# Altium footprint library Flow_Pump显示板.PcbLib: 70 footprints (part 3 of 5)
Each footprint in its own frame and in the unit in brackets; x right, y up, seen from the top. Pads: shape width x height; smd on the part's side, far side on the other; paste and mask are expansions set on the pad; w line width, h text height; cw(c..) or ccw(c..) is an arc to the next point about the centre after c.
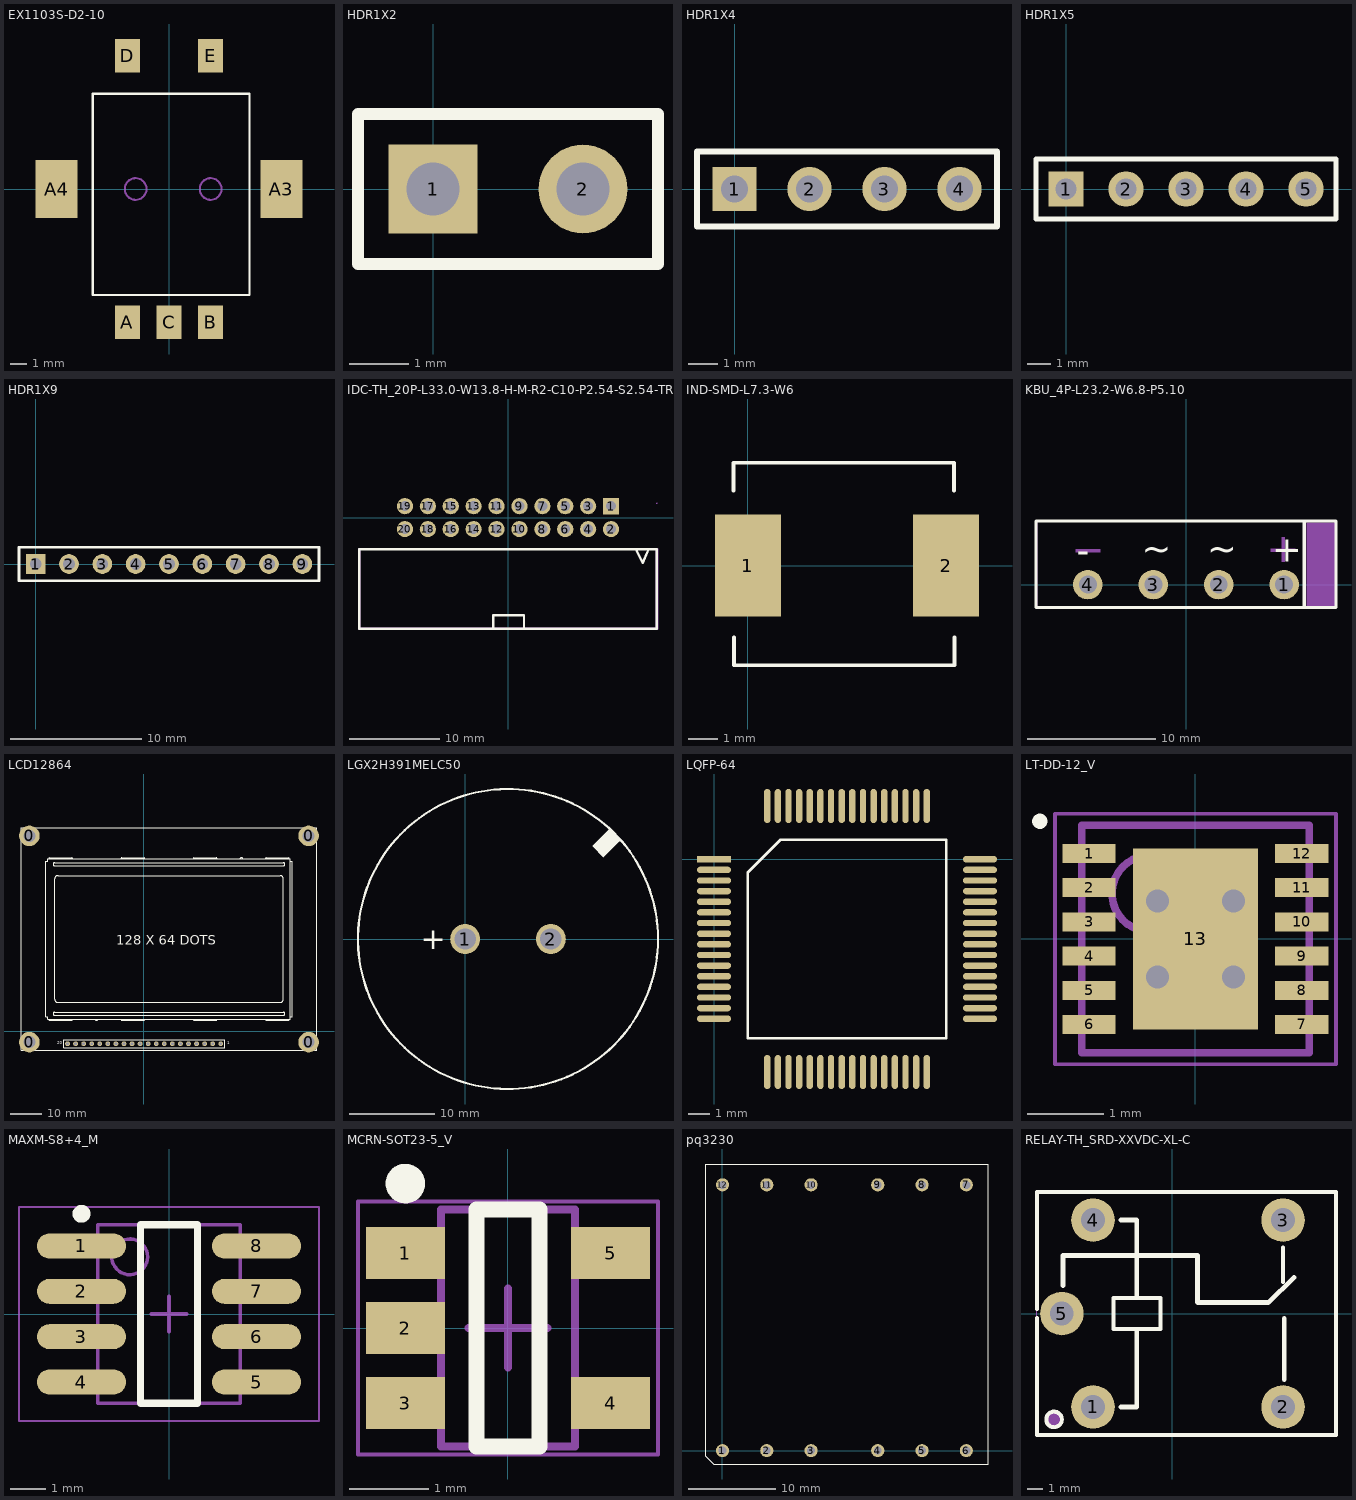
[diagram p2: the footprints below, top view; thin cyan lines are the x and y axes]

## EX1103S-D2-10 [mm]
height 0.75
pads (7):
  rect 1.5x2 smd: A(-2.5,-8) B(2.5,-8) C(0,-8) D(-2.5,8) E(2.5,8)
  rect 2.5x3.5 smd: A3(6.75,0) A4(-6.75,0)
Top Overlay:
  lines w0.127: -4.572,-6.35 -4.572,5.715 4.826,5.715 4.826,-6.35 -4.572,-6.35
Mechanical 1:
  circle w0.127: c-2,0 r0.65
  circle w0.127: c2.5,0 r0.65

## HDR1X2 [mm] "Connector; Header; 2 Position"
height 0.75
pads (2):
  rect 1.5x1.5 hole 0.9: 1(0,0)
  round 1.5 hole 0.9: 2(2.54,0)
Top Overlay:
  lines w0.2: -1.27,-1.27 -1.27,1.27 3.81,1.27 3.81,-1.27 -1.27,-1.27

## HDR1X4 [mm] "Connector; Header; 4 Position"
height 0.75
pads (4):
  rect 1.5x1.5 hole 0.9: 1(0,0)
  round 1.5 hole 0.9: 2(2.54,0) 3(5.08,0) 4(7.62,0)
Top Overlay:
  lines w0.2: -1.27,-1.27 -1.27,1.27 8.89,1.27 8.89,-1.27 -1.27,-1.27

## HDR1X5 [mm] "Connector; Header; 5 Position"
height 0.75
pads (5):
  rect 1.5x1.5 hole 0.9: 1(0,0)
  round 1.5 hole 0.9: 2(2.54,0) 3(5.08,0) 4(7.62,0) 5(10.16,0)
Top Overlay:
  lines w0.2: -1.27,-1.27 11.43,-1.27 11.43,1.27 -1.27,1.27 -1.27,-1.27

## HDR1X9 [mm] "Connector; Header; 9 Position"
height 0.75
pads (9):
  rect 1.5x1.5 hole 0.9: 1(0,0)
  round 1.5 hole 0.9: 2(2.54,0) 3(5.08,0) 4(7.62,0) 5(10.16,0) 6(12.7,0) 7(15.24,0) 8(17.78,0) 9(20.32,0)
Top Overlay:
  lines w0.2: -1.27,-1.27 21.59,-1.27 21.59,1.27 -1.27,1.27 -1.27,-1.27

## IDC-TH_20P-L33.0-W13.8-H-M-R2-C10-P2.54-S2.54-TR [mm]
pads (20):
  rect 1.8x1.8 hole 1.1: 1(11.43,1.27)
  round 1.8 hole 1.1: 2(11.43,-1.27) 3(8.89,1.27) 4(8.89,-1.27) 5(6.35,1.27) 6(6.35,-1.27) 7(3.81,1.27) 8(3.81,-1.27) 9(1.27,1.27) 10(1.27,-1.27) 11(-1.27,1.27) 12(-1.27,-1.27) 13(-3.81,1.27) 14(-3.81,-1.27) 15(-6.35,1.27) 16(-6.35,-1.27) 17(-8.89,1.27) 18(-8.89,-1.27) 19(-11.43,1.27) 20(-11.43,-1.27)
Top Overlay:
  lines w0.254: -16.51,-3.525 -16.51,-12.325 16.51,-12.325 16.51,-3.52 -16.51,-3.52 ; -1.639,-12.325 -1.639,-10.84 1.78,-10.84 1.78,-12.325 ; 14.178,-3.52 14.94,-5.01 15.6,-3.52
Mechanical 6:
  region: 16.383,-12.325 16.383,-3.52 16.383,-3.467 16.457,-3.393 16.563,-3.393 16.637,-3.467 16.637,-3.52 16.637,-12.325 16.637,-12.378 16.563,-12.452 16.457,-12.452 16.383,-12.378
  region: -16.51,-12.198 16.51,-12.198 16.563,-12.198 16.637,-12.272 16.637,-12.378 16.563,-12.452 16.51,-12.452 -16.51,-12.452 -16.563,-12.452 -16.637,-12.378 -16.637,-12.272 -16.563,-12.198
  region: -16.383,-3.525 -16.383,-12.325 -16.383,-12.378 -16.457,-12.452 -16.563,-12.452 -16.637,-12.378 -16.637,-12.325 -16.637,-3.525 -16.637,-3.472 -16.563,-3.398 -16.457,-3.398 -16.383,-3.472
Mechanical 15:
  region: 16.57,1.59 16.569,1.614 16.534,1.648 16.486,1.648 16.451,1.614 16.45,1.59 16.451,1.566 16.486,1.532 16.534,1.532 16.569,1.566
  region: 11.11,-0.95 11.75,-0.95 11.75,-1.59 11.11,-1.59
  region: 8.57,1.59 9.21,1.59 9.21,0.95 8.57,0.95
  region: 8.57,-0.95 9.21,-0.95 9.21,-1.59 8.57,-1.59
  region: 6.03,1.59 6.67,1.59 6.67,0.95 6.03,0.95
  region: 6.03,-0.95 6.67,-0.95 6.67,-1.59 6.03,-1.59
  region: 3.49,1.59 4.13,1.59 4.13,0.95 3.49,0.95
  region: 3.49,-0.95 4.13,-0.95 4.13,-1.59 3.49,-1.59
  region: 0.95,1.59 1.59,1.59 1.59,0.95 0.95,0.95
  region: 0.95,-0.95 1.59,-0.95 1.59,-1.59 0.95,-1.59
  region: -1.59,1.59 -0.95,1.59 -0.95,0.95 -1.59,0.95
  region: -1.59,-0.95 -0.95,-0.95 -0.95,-1.59 -1.59,-1.59
  region: -4.13,1.59 -3.49,1.59 -3.49,0.95 -4.13,0.95
  region: -4.13,-0.95 -3.49,-0.95 -3.49,-1.59 -4.13,-1.59
  region: -6.67,1.59 -6.03,1.59 -6.03,0.95 -6.67,0.95
  region: -6.67,-0.95 -6.03,-0.95 -6.03,-1.59 -6.67,-1.59
  region: -9.21,1.59 -8.57,1.59 -8.57,0.95 -9.21,0.95
  region: -9.21,-0.95 -8.57,-0.95 -8.57,-1.59 -9.21,-1.59
  region: -11.75,1.59 -11.11,1.59 -11.11,0.95 -11.75,0.95
  region: -11.75,-0.95 -11.11,-0.95 -11.11,-1.59 -11.75,-1.59
  region: 11.11,1.59 11.75,1.59 11.75,0.95 11.11,0.95
  lines w0.051: -16.51,-12.323 16.51,-12.323 16.51,-3.523 -16.51,-3.523 -16.51,-12.323

## IND-SMD-L7.3-W6 [mm]
height 0.75
pads (2):
  rect 2.224x3.42 smd: 1(0,0) 2(6.656,0)
Top Overlay:
  lines w0.127: -0.483,2.515 -0.483,3.454 6.917,3.454 6.917,2.515 ; -0.466,-2.413 -0.466,-3.353 6.934,-3.353 6.934,-2.413

## KBU_4P-L23.2-W6.8-P5.10 [mm]
height 0.75
pads (4):
  round 2.3 hole 1.4: 1(7.65,0) 2(2.55,0) 3(-2.55,0) 4(-7.65,0)
Top Overlay:
  lines w0.254: 9.206,-1.778 9.206,4.953 ; -11.684,-1.778 -11.684,4.953 11.684,4.953 11.684,-1.778 -11.684,-1.778
  text "-" at -8.509,1.651 h2.03
  text "~" at -3.43,1.831 h2.03
  text "~" at 1.65,1.831 h2.03
  text "+" at 6.73,1.786 h2.03
Mechanical 6:
  region: 9.398,4.826 11.557,4.826 11.557,-1.651 9.398,-1.651
  region: -8.597,2.758 -6.692,2.758 -6.692,2.504 -8.597,2.504
  region: 7.452,1.764 7.452,3.669 7.706,3.669 7.706,1.764
  region: 6.604,2.794 8.509,2.794 8.509,2.54 6.604,2.54
Mechanical 15:
  region: -7.025,0 -7.025,0.124 -7.12,0.354 -7.296,0.53 -7.526,0.625 -7.774,0.625 -8.004,0.53 -8.18,0.354 -8.275,0.124 -8.275,0 -8.275,-0.124 -8.18,-0.354 -8.004,-0.53 -7.774,-0.625 -7.526,-0.625 -7.296,-0.53 -7.12,-0.354 -7.025,-0.124 -7.025,0
  region: -1.925,0 -1.925,0.124 -2.02,0.354 -2.196,0.53 -2.426,0.625 -2.674,0.625 -2.904,0.53 -3.08,0.354 -3.175,0.124 -3.175,0 -3.175,-0.124 -3.08,-0.354 -2.904,-0.53 -2.674,-0.625 -2.426,-0.625 -2.196,-0.53 -2.02,-0.354 -1.925,-0.124 -1.925,0
  region: 3.175,0 3.175,0.124 3.08,0.354 2.904,0.53 2.674,0.625 2.426,0.625 2.196,0.53 2.02,0.354 1.925,0.124 1.925,0 1.925,-0.124 2.02,-0.354 2.196,-0.53 2.426,-0.625 2.674,-0.625 2.904,-0.53 3.08,-0.354 3.175,-0.124 3.175,0
  region: 8.275,0 8.275,0.124 8.18,0.354 8.004,0.53 7.774,0.625 7.526,0.625 7.296,0.53 7.12,0.354 7.025,0.124 7.025,0 7.025,-0.124 7.12,-0.354 7.296,-0.53 7.526,-0.625 7.774,-0.625 8.004,-0.53 8.18,-0.354 8.275,-0.124 8.275,0
  region: 11.66,4.95 11.66,4.975 11.625,5.01 11.575,5.01 11.54,4.975 11.54,4.95 11.54,4.925 11.575,4.89 11.625,4.89 11.66,4.925 11.66,4.95
  lines w0.051: -11.6,-1.8 -11.6,4.95 11.6,4.95 11.6,-1.8 -11.6,-1.8

## LCD12864 [mm] "Connector; Header; 5 Position"
height 0.75
pads (24):
  round 6.5 hole 3.8: 0(-35.982,-3.505) 0(-35.982,61.495) 0(52.018,-3.505) 0(52.018,61.495)
  round 1.5 hole 0.9: 1(24.318,-4.006) 2(21.778,-4.006) 3(19.238,-4.006) 4(16.698,-4.006) 5(14.158,-4.006) 6(11.618,-4.006) 7(9.078,-4.006) 8(6.538,-4.006) 9(3.998,-4.006) 10(1.458,-4.006) 11(-1.082,-4.006) 12(-3.622,-4.006) 13(-6.162,-4.006) 14(-8.702,-4.006) 15(-11.242,-4.006) 16(-13.782,-4.006) 17(-16.322,-4.006) 18(-18.862,-4.006) 19(-21.402,-4.006) 20(-23.942,-4.006)
Top Overlay:
  circle w0.254: c-27.982,47.995 r0.003
  circle w0.254: c-38.482,63.995 r0.003
  circle w0.254: c-38.482,63.995 r0.003
  circle w0.254: c-30.782,53.495 r0.003
  circle w0.254: c-38.482,63.995 r0.003
  circle w0.254: c-30.182,54.345 r0.003
  circle w0.254: c-38.482,63.995 r0.003
  circle w0.254: c-38.482,63.995 r0.003
  circle w0.254: c-38.482,63.995 r0.003
  circle w0.254: c54.518,63.995 r0.003
  circle w0.254: c-38.482,63.995 r0.003
  circle w0.254: c46.818,53.495 r0.003
  circle w0.254: c-30.782,53.495 r0.003
  circle w0.254: c44.018,47.995 r0.003
  circle w0.254: c-27.982,47.995 r0.003
  circle w0.254: c-38.482,-6.005 r0.003
  circle w0.254: c-38.482,63.995 r0.003
  circle w0.254: c-30.182,3.645 r0.003
  circle w0.254: c-30.182,54.345 r0.003
  circle w0.254: c-26.982,8.995 r0.003
  circle w0.254: c-26.982,48.995 r0.003
  circle w0.254: c54.518,-6.005 r0.003
  circle w0.254: c-38.482,-6.005 r0.003
  lines w0.2: -25.212,-5.276 -25.212,-2.736 25.588,-2.736 25.588,-5.276 -25.212,-5.276
  lines w0.254: -29.869,3.645 ccw(c-29.182,3.945) -29.632,3.345 -22.582,3.345 ccw(c-23.032,3.945) -22.344,3.645 ; -29.869,54.345 cw(c-29.182,54.045) -29.632,54.645 -22.582,54.645 cw(c-23.032,54.045) -22.344,54.345 ; -15.255,3.645 ccw(c-14.794,3.945) -14.333,3.645 ; -7.124,3.645 ccw(c-6.437,3.945) -6.887,3.345 0.163,3.345 ccw(c-0.287,3.945) 0.401,3.645 ; -7.124,54.345 cw(c-6.437,54.045) -6.887,54.645 0.163,54.645 cw(c-0.287,54.045) 0.401,54.345 ; 15.636,3.645 ccw(c16.323,3.945) 15.873,3.345 22.923,3.345 ccw(c22.473,3.945) 23.161,3.645 ; 15.636,54.345 cw(c16.323,54.045) 15.873,54.645 22.923,54.645 cw(c22.473,54.045) 23.161,54.345 ; 30.37,54.345 cw(c30.831,54.045) 31.292,54.345 ; 38.381,3.645 ccw(c39.068,3.945) 38.618,3.345 45.668,3.345 ccw(c45.218,3.945) 45.906,3.645 ; 38.381,54.345 cw(c39.068,54.045) 38.618,54.645 45.668,54.645 cw(c45.218,54.045) 45.906,54.345 ; -30.782,4.495 -30.182,4.495 ; -30.782,4.495 -30.782,53.495 ; -30.782,4.495 -30.182,4.495 ; -30.782,4.495 -30.782,53.495 ; -30.782,53.495 -30.182,53.495 ; -30.782,53.495 -30.182,53.495 ; -30.182,3.645 -30.182,4.495 ; -30.182,3.645 46.018,3.645 -30.182,3.645 ; -30.182,3.645 -30.182,4.495 ; -30.182,53.495 -30.182,54.345 ; -30.182,53.495 -30.182,53.88 -30.182,53.495 ; -30.182,53.495 -30.182,54.345 ; -30.182,54.345 46.018,54.345 -30.182,54.345 ; -29.982,54.345 46.218,54.345 ; -29.982,54.345 46.218,54.345 ; -29.982,54.345 46.218,54.345 ; -27.982,4.945 cw(c-27.982,5.445) -27.982,5.945 ; -27.982,4.945 cw(c-27.982,5.445) -27.982,5.945 ; -27.982,4.945 44.018,4.945 ; -27.982,5.945 44.018,5.945 ; -27.982,9.995 ccw(c-26.982,9.995) -26.982,8.995 ; -27.982,9.995 ccw(c-26.982,9.995) -26.982,8.995 ; -27.982,9.995 -27.982,47.995 ; -27.982,9.995 -27.982,47.995 ; -27.982,47.995 cw(c-26.982,47.995) -26.982,48.995 ; -27.982,47.995 cw(c-26.982,47.995) -26.982,48.995 ; -27.982,52.045 cw(c-27.982,52.545) -27.982,53.045 ; -27.982,52.045 cw(c-27.982,52.545) -27.982,53.045 ; -27.982,52.045 44.018,52.045 ; -27.982,52.045 44.018,52.045 ; -27.982,53.045 44.018,53.045 ; -27.982,53.045 44.018,53.045 ; -26.982,8.995 43.018,8.995 ; -26.982,8.995 43.018,8.995 ; -26.982,48.995 43.018,48.995 ; -26.982,48.995 43.018,48.995 ; 43.018,8.995 ccw(c43.018,9.995) 44.018,9.995 ; 43.018,8.995 ccw(c43.018,9.995) 44.018,9.995 ; 43.018,48.995 cw(c43.018,47.995) 44.018,47.995 ; 43.018,48.995 cw(c43.018,47.995) 44.018,47.995 ; 44.018,4.945 ccw(c44.018,5.445) 44.018,5.945 ; 44.018,4.945 ccw(c44.018,5.445) 44.018,5.945 ; 44.018,9.995 44.018,47.995 ; 44.018,9.995 44.018,47.995 ; 44.018,52.045 ccw(c44.018,52.545) 44.018,53.045 ; 44.018,52.045 ccw(c44.018,52.545) 44.018,53.045 ; 46.218,3.645 46.218,4.495 ; 46.218,3.645 -29.982,3.645 46.218,3.645 ; 46.218,3.645 46.218,4.495 ; 46.218,4.495 46.818,4.495 ; 46.218,4.495 46.218,53.495 ; 46.218,4.495 46.818,4.495 ; 46.218,53.495 46.218,54.345 ; 46.218,53.495 46.218,54.345 ; 46.218,53.495 46.218,53.88 46.218,53.495 ; 46.218,53.495 46.818,53.495 ; 46.218,53.495 46.218,54.345 ; 46.218,53.495 46.818,53.495 ; 46.818,4.495 46.818,53.495 ; 46.818,4.495 46.818,53.495 ; -38.482,-6.005 -38.482,63.995 54.518,63.995 54.518,-6.005 -38.482,-6.005
  text "20" at -27.214,-4.496 h1.52
  text "1" at 26.322,-4.46 h1.52
  text "128 X 64 DOTS" at -8.675,27.127 h3

## LGX2H391MELC50 [mm]
height 0.75
pads (2):
  round 3.5 hole 2.5: 1(0,0) 2(10,0)
Top Overlay:
  circle w0.254: c5,0 r17.5
  region: 16.861,12.867 14.859,10.865 14.859,10.795 16.129,9.525 17.981,11.377 18.297,11.377
  text "+" at -5.207,-1.185 h2.54

## LQFP-64 [mm]
height 0.75
pads (64):
  rect 1.6x0.3 smd: 1(0,0)
  oval 1.6x0.3 smd: 2(0,-0.5) 3(0,-1) 4(0,-1.5) 5(0,-2) 6(0,-2.5) 7(0,-3) 8(0,-3.5) 9(0,-4) 10(0,-4.5) 11(0,-5) 12(0,-5.5) 13(0,-6) 14(0,-6.5) 15(0,-7) 16(0,-7.5) 33(12.5,-7.5) 34(12.5,-7) 35(12.5,-6.5) 36(12.5,-6) 37(12.5,-5.5) 38(12.5,-5) 39(12.5,-4.5) 40(12.5,-4) 41(12.5,-3.5) 42(12.5,-3) 43(12.5,-2.5) 44(12.5,-2) 45(12.5,-1.5) 46(12.5,-1) 47(12.5,-0.5) 48(12.5,0)
  oval 0.3x1.6 smd: 17(2.5,-10) 18(3,-10) 19(3.5,-10) 20(4,-10) 21(4.5,-10) 22(5,-10) 23(5.5,-10) 24(6,-10) 25(6.5,-10) 26(7,-10) 27(7.5,-10) 28(8,-10) 29(8.5,-10) 30(9,-10) 31(9.5,-10) 32(10,-10) 49(10,2.5) 50(9.5,2.5) 51(9,2.5) 52(8.5,2.5) 53(8,2.5) 54(7.5,2.5) 55(7,2.5) 56(6.5,2.5) 57(6,2.5) 58(5.5,2.5) 59(5,2.5) 60(4.5,2.5) 61(4,2.5) 62(3.5,2.5) 63(3,2.5) 64(2.5,2.5)
Top Overlay:
  lines w0.127: 1.585,-8.415 10.915,-8.415 10.915,0.915 3.12,0.915 1.585,-0.62 1.585,-8.415

## LT-DD-12_V [mm] "SON, 12-Leads, Body 3x3mm, Pitch 0.45mm, Thermal Pad 2.38x1.65mm"
height 0.8
pads (13):
  rect 0.7x0.25 smd: 1(-1.4,1.125) 2(-1.4,0.675) 3(-1.4,0.225) 4(-1.4,-0.225) 5(-1.4,-0.675) 6(-1.4,-1.125) 7(1.4,-1.125) 8(1.4,-0.675) 9(1.4,-0.225) 10(1.4,0.225) 11(1.4,0.675) 12(1.4,1.125)
  rect 1.65x2.38 smd: 13(0,0)
via -0.5,0.5 diameter 0.61 hole 0.305
via 0.5,0.5 diameter 0.61 hole 0.305
via -0.5,-0.5 diameter 0.61 hole 0.305
via 0.5,-0.5 diameter 0.61 hole 0.305
Top Overlay:
  circle w0.1: c-2.05,1.55 r0.05
Mechanical 13:
  circle w0.1: c-0.6,0.6 r0.5
  lines w0.1: -1.5,-1.5 -1.5,1.5 1.5,1.5 1.5,-1.5 -1.5,-1.5
Mechanical 15:
  lines w0.05: -1.85,-1.65 -1.85,1.65 1.85,1.65 1.85,-1.65 -1.85,-1.65
  lines w0.1: -0.5,0 0.5,0 ; 0,-0.5 0,0.5
3D body: height 0.8, standoff 0, extent -1.5,-1.5 1.5,1.5

## MAXM-S8+4_M [mm] "SOIC, 8-Leads, Body 4.9x3.9mm, Pitch 1.27mm, IPC Low Density"
height 1.75
pads (8):
  oval 2.5x0.7 smd: 1(-2.45,1.905) 2(-2.45,0.635) 3(-2.45,-0.635) 4(-2.45,-1.905) 5(2.45,-1.905) 6(2.45,-0.635) 7(2.45,0.635) 8(2.45,1.905)
Top Overlay:
  circle w0.25: c-2.45,2.805 r0.125
  lines w0.2: -0.8,-2.5 0.8,-2.5 0.8,2.5 -0.8,2.5 -0.8,-2.5
Mechanical 13:
  circle w0.1: c-1.1,1.6 r0.5
  lines w0.1: -2,-2.5 2,-2.5 2,2.5 -2,2.5 -2,-2.5
Mechanical 15:
  lines w0.05: -4.2,-3 4.2,-3 4.2,3 -4.2,3 -4.2,-3
  lines w0.1: -0.5,0 0.5,0 ; 0,-0.5 0,0.5
3D body: height 1.75, standoff 0.1, extent -2,-2.5 2,2.5

## MCRN-SOT23-5_V [mm] "SOT-23, 5-Leads, Body 3x1.7mm, Pitch 0.95mm"
height 1.45
pads (5):
  rect 1x0.66 smd: 1(-1.3,0.95) 2(-1.3,0) 3(-1.3,-0.95) 4(1.3,-0.95) 5(1.3,0.95)
Top Overlay:
  circle w0.25: c-1.3,1.83 r0.125
  lines w0.2: -0.4,-1.5 -0.4,1.5 0.4,1.5 0.4,-1.5 -0.4,-1.5
Mechanical 13:
  lines w0.1: -0.85,-1.5 0.85,-1.5 0.85,1.5 -0.85,1.5 -0.85,-1.5
Mechanical 15:
  lines w0.05: -1.9,-1.6 1.9,-1.6 1.9,1.6 -1.9,1.6 -1.9,-1.6
  lines w0.1: -0.5,0 0.5,0 ; 0,-0.5 0,0.5
3D body "SOT95P280X145-5L.step": height 1.45, standoff 0, extent -1.5,-1.5 1.5,1.5

## pq3230 [mm]
height 0.75
pads (12):
  round 1.5 hole 0.9: 1(0,0) 2(5.05,0) 3(10.1,0) 4(17.7,0) 5(22.75,0) 6(27.8,0) 7(27.8,30.3) 8(22.75,30.3) 9(17.7,30.3) 10(10.1,30.3) 11(5.05,30.3) 12(0,30.3)
Top Overlay:
  lines w0.127: -1.905,-0.635 -1.016,-1.524 30.295,-1.524 30.295,32.676 -1.905,32.676 -1.905,-0.635

## RELAY-TH_SRD-XXVDC-XL-C [mil]
height 29.53
pads (5):
  round 110 hole 60: 1(-200.79,-236.22) 2(279.54,-236.2) 3(279.53,236.2) 4(-200.79,236.22) 5(-279.53,0)
Top Overlay:
  circle w10: c-299.21,-267.72 r19.69
  lines w10: -342.49,-11.6 -342.49,-307.09 413.43,-307.09 ; -342.49,11.6 -342.49,307.09 413.42,307.09 413.43,-307.09 ; 279.5,79.5 279.5,167.2 ; -148.62,-39.37 -30.51,-39.37 -30.51,39.37 -148.62,39.37 -148.62,-39.37
  lines w11.81: -276.84,70.87 -276.84,146.74 63.16,146.74 63.16,28.63 64.11,27.68 222.22,27.68 242.22,27.68 ; -130.31,-236.22 -90.24,-236.22 -90.24,-41.39 ; -130.31,236.22 -90.24,236.22 -90.24,41.37 ; 242.13,27.6 307.11,90.9 ; 282.22,-167.6 282.22,-12.3
Mechanical 6:
  circle w19.68: c-299.21,-267.72 r9.84
Mechanical 15:
  region: -340.16,-307.07 -340.16,-306.09 -341.54,-304.71 -343.5,-304.71 -344.88,-306.09 -344.88,-307.07 -344.88,-308.05 -343.5,-309.43 -341.54,-309.43 -340.16,-308.05 -340.16,-307.07
  region: -188.97,236.22 -189.02,238.54 -190.86,242.8 -194.17,246.05 -198.47,247.8 -203.11,247.8 -207.4,246.05 -210.72,242.8 -212.56,238.54 -212.6,236.22 -212.56,233.9 -210.72,229.64 -207.4,226.39 -203.11,224.63 -198.47,224.63 -194.17,226.39 -190.86,229.64 -189.02,233.9 -188.97,236.22
  region: -188.97,-236.22 -189.02,-233.9 -190.86,-229.64 -194.17,-226.39 -198.47,-224.64 -203.11,-224.64 -207.4,-226.39 -210.72,-229.64 -212.56,-233.9 -212.6,-236.22 -212.56,-238.54 -210.72,-242.8 -207.4,-246.05 -203.11,-247.81 -198.47,-247.81 -194.17,-246.05 -190.86,-242.8 -189.02,-238.54 -188.97,-236.22
  region: -271.66,21.65 -271.66,-21.65 -287.4,-21.65 -287.4,21.65
  region: 299.21,226.36 259.85,226.36 259.85,246.04 299.21,246.04
  region: 299.21,-246.04 259.85,-246.04 259.85,-226.36 299.21,-226.36
  lines w2: -342.52,-307.07 -342.52,307.09 413.39,307.09 413.39,-307.07 -342.52,-307.07